# EAGLE library part FXMA108 (library FaBo-LevelTranslator)
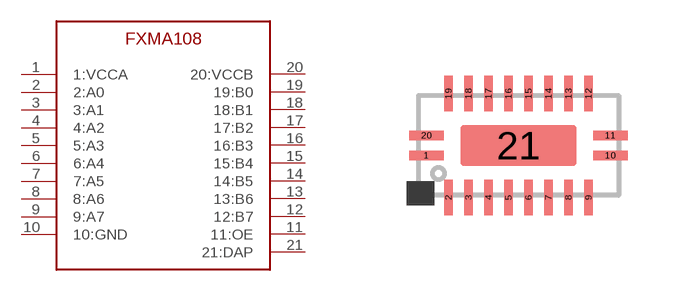
[diagram p14: symbol with the pads of DQFN; footprint DQFN]

Designator prefix -

## FXMA108  [DQFN]
1  1:VCCA  pwr
2  2:A0
3  3:A1
4  4:A2
5  5:A3
6  6:A4
7  7:A5
8  8:A6
9  9:A7
10  10:GND  pwr
11  11:OE  in
12  12:B7
13  13:B6
14  14:B5
15  15:B4
16  16:B3
17  17:B2
18  18:B1
19  19:B0
20  20:VCCB  pwr
21  21:DAP  nc

## Footprint DQFN (pad centres in mm)
smd 0.9 x 0.24: 1 -2.3,-0.25; 10 2.3,-0.25; 11 2.3,0.25; 20 -2.3,0.25
smd 0.24 x 0.9: 2 -1.75,-1.3; 3 -1.25,-1.3; 4 -0.75,-1.3; 5 -0.25,-1.3; 6 0.25,-1.3; 7 0.75,-1.3; 8 1.25,-1.3; 9 1.75,-1.3; 12 1.75,1.3; 13 1.25,1.3; 14 0.75,1.3; 15 0.25,1.3; 16 -0.25,1.3; 17 -0.75,1.3; 18 -1.25,1.3; 19 -1.75,1.3
smd 2.9 x 1: 21 0,0